# Altium footprint library TO255P1020X450X2000-3.PcbLib: 1 footprints
Each footprint in its own frame and in the unit in brackets; x right, y up, seen from the top. Pads: shape width x height; smd on the part's side, far side on the other; paste and mask are expansions set on the pad; w line width, h text height; cw(c..) or ccw(c..) is an arc to the next point about the centre after c.
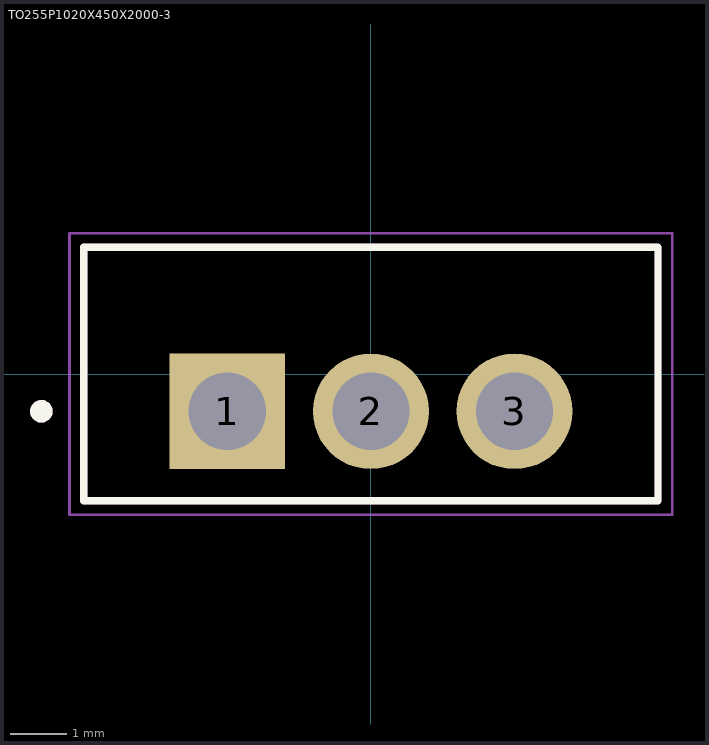
[diagram p0: the footprint, top view; thin cyan lines are the x and y axes]

## TO255P1020X450X2000-3 [mm]
height 20
pads (3):
  rect 2.055x2.055 / inner round 2.055 / far side rect 2.055x2.055 hole 1.37: 1(-2.55,-0.663)
  round 2.055 hole 1.37: 2(0,-0.663) 3(2.55,-0.663)
Top Overlay:
  circle w0.2: c-5.85,-0.663 r0.1
  lines w0.127: -5.1,-2.25 -5.1,2.25 5.1,2.25 5.1,-2.25 -5.1,-2.25
Mechanical 13:
  circle w0.2: c-5.85,-0.663 r0.1
  lines w0.127: -5.1,-2.25 -5.1,2.25 5.1,2.25 5.1,-2.25 -5.1,-2.25
Mechanical 15:
  lines w0.05: -5.35,-2.5 -5.35,2.5 5.35,2.5 5.35,-2.5 -5.35,-2.5
3D body "step_temp.STEP": height 20, standoff -10.6, extent -5.1,-2.25 5.1,2.25